# EAGLE library part DS3231ST&R (library OPEnS-RTC)
DS3231 RTC IC only
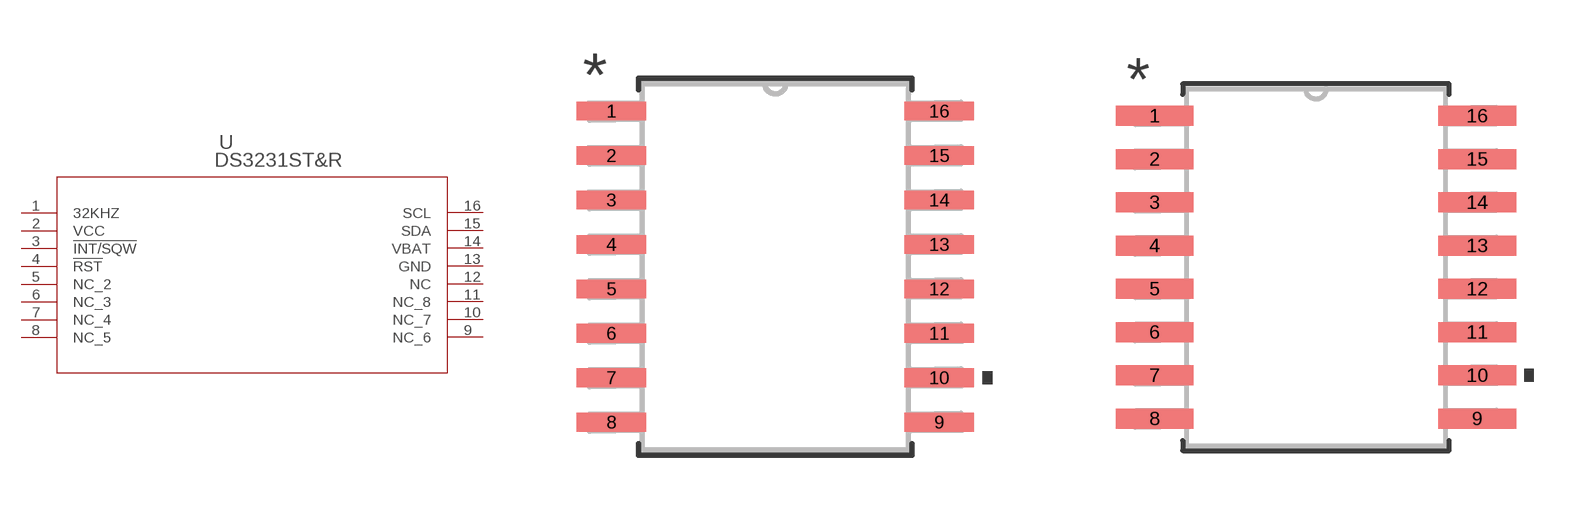
[diagram p2: symbol with the pads of 21-0042B_16; footprints 21-0042B_16, 21-0042B_16-M]

Designator prefix U

## DS3231ST&R (MANUFACTURER_PART_NUMBER: DS3231S#T&R; VENDOR: Maxim Integrated Products)  [21-0042B_16]
1  32KHZ  pas
2  VCC  pwr
3  !INT/SQW  pas
4  !RST  pas
5  NC_2  pas
6  NC_3  pas
7  NC_4  pas
8  NC_5  pas
9  NC_6  pas
10  NC_7  pas
11  NC_8  pas
12  NC  pas
13  GND  pwr
14  VBAT  pwr
15  SDA  pas
16  SCL  pas

## DS3231ST&R21-0042B_16-M (MANUFACTURER_PART_NUMBER: DS3231S#T&R; VENDOR: Maxim Integrated Products)  [21-0042B_16-M]
Pads as for 21-0042B_16

## DS3231ST&R21-0042B_16-L (MANUFACTURER_PART_NUMBER: DS3231S#T&R; VENDOR: Maxim Integrated Products)  [21-0042B_16-L]
Pads as for 21-0042B_16

## Footprint 21-0042B_16 (pad centres in mm)
smd 1.981 x 0.533: 1 -4.686,4.445; 2 -4.686,3.175; 3 -4.686,1.905; 4 -4.686,0.635; 5 -4.686,-0.635; 6 -4.686,-1.905; 7 -4.686,-3.175; 8 -4.686,-4.445; 9 4.686,-4.445; 10 4.686,-3.175; 11 4.686,-1.905; 12 4.686,-0.635; 13 4.686,0.635; 14 4.686,1.905; 15 4.686,3.175; 16 4.686,4.445

## Footprint 21-0042B_16-M (pad centres in mm)
smd 2.286 x 0.584: 1 -4.737,4.445; 2 -4.737,3.175; 3 -4.737,1.905; 4 -4.737,0.635; 5 -4.737,-0.635; 6 -4.737,-1.905; 7 -4.737,-3.175; 8 -4.737,-4.445; 9 4.737,-4.445; 10 4.737,-3.175; 11 4.737,-1.905; 12 4.737,-0.635; 13 4.737,0.635; 14 4.737,1.905; 15 4.737,3.175; 16 4.737,4.445

## Footprint 21-0042B_16-L (pad centres in mm)
smd 1.676 x 0.483: 1 -4.636,4.445; 2 -4.636,3.175; 3 -4.636,1.905; 4 -4.636,0.635; 5 -4.636,-0.635; 6 -4.636,-1.905; 7 -4.636,-3.175; 8 -4.636,-4.445; 9 4.636,-4.445; 10 4.636,-3.175; 11 4.636,-1.905; 12 4.636,-0.635; 13 4.636,0.635; 14 4.636,1.905; 15 4.636,3.175; 16 4.636,4.445